# Altium footprint library 光耦.PcbLib: 2 footprints
Each footprint in its own frame and in the unit in brackets; x right, y up, seen from the top. Pads: shape width x height; smd on the part's side, far side on the other; paste and mask are expansions set on the pad; w line width, h text height; cw(c..) or ccw(c..) is an arc to the next point about the centre after c.
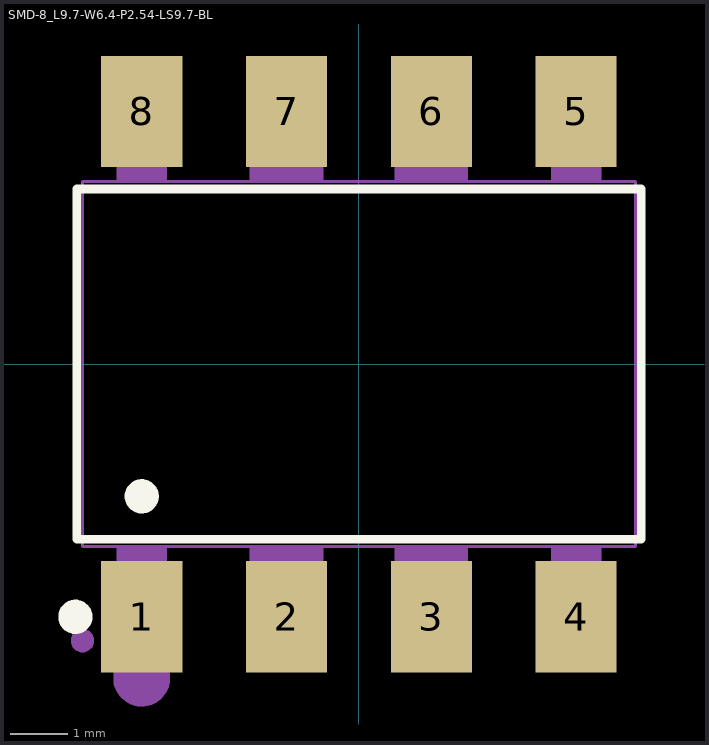
[diagram p0: the footprints below, top view; thin cyan lines are the x and y axes]

## PCBComponent_1 [mil]

## SMD-8_L9.7-W6.4-P2.54-LS9.7-BL [mil]
pads (8):
  rect 56x76.77 smd: 1(-150,-174.51) 2(-50,-174.51) 3(50,-174.51) 4(150,-174.51) 5(150,174.51) 6(50,174.51) 7(-50,174.51) 8(-150,174.51)
Top Overlay:
  circle w11.81: c-195.81,-174.51 r5.91
  circle w11.81: c-150,-91.3 r5.91
  lines w6: -194.93,-120.92 194.93,-120.92 194.93,120.92 -194.93,120.92 -194.93,-120.92
Mechanical 6:
  circle w19.68: c-150,-216.72 r9.84
Mechanical 15:
  region: 132.78,-190.94 132.78,-150.98 167.22,-150.98 167.22,-190.94
  region: 132.78,-151.38 132.78,-125.59 167.22,-125.59 167.22,-151.38
  region: -167.22,-190.94 -167.22,-150.98 -132.78,-150.98 -132.78,-190.94
  region: -167.22,-151.38 -167.22,-125.59 -132.78,-125.59 -132.78,-151.38
  region: 132.78,150.98 132.78,190.94 167.22,190.94 167.22,150.98
  region: 132.78,125.59 132.78,151.38 167.22,151.38 167.22,125.59
  region: -167.22,150.98 -167.22,190.94 -132.78,190.94 -132.78,150.98
  region: -167.22,125.59 -167.22,151.38 -132.78,151.38 -132.78,125.59
  region: -75.3,-190.94 -75.3,-150.98 -24.7,-150.98 -24.7,-190.94
  region: -75.3,-151.38 -75.3,-125.59 -24.7,-125.59 -24.7,-151.38
  region: 24.7,-190.94 24.7,-150.98 75.3,-150.98 75.3,-190.94
  region: 24.7,-151.38 24.7,-125.59 75.3,-125.59 75.3,-151.38
  region: -75.3,150.98 -75.3,190.94 -24.7,190.94 -24.7,150.98
  region: -75.3,125.59 -75.3,151.38 -24.7,151.38 -24.7,125.59
  region: 24.7,150.98 24.7,190.94 75.3,190.94 75.3,150.98
  region: 24.7,125.59 24.7,151.38 75.3,151.38 75.3,125.59
  region: -183.07,-190.94 -183.07,-189.38 -184.27,-186.48 -186.48,-184.27 -189.38,-183.07 -192.51,-183.07 -195.41,-184.27 -197.62,-186.48 -198.82,-189.38 -198.82,-190.94 -198.82,-192.51 -197.62,-195.41 -195.41,-197.62 -192.51,-198.82 -189.38,-198.82 -186.48,-197.62 -184.27,-195.41 -183.07,-192.51 -183.07,-190.94
  lines w2: -190.94,-125.98 190.94,-125.98 190.94,125.98 -190.94,125.98 -190.94,-125.98